# Altium footprint library SOT23-6.PcbLib: 2 footprints
Each footprint in its own frame and in the unit in brackets; x right, y up, seen from the top. Pads: shape width x height; smd on the part's side, far side on the other; paste and mask are expansions set on the pad; w line width, h text height; cw(c..) or ccw(c..) is an arc to the next point about the centre after c.
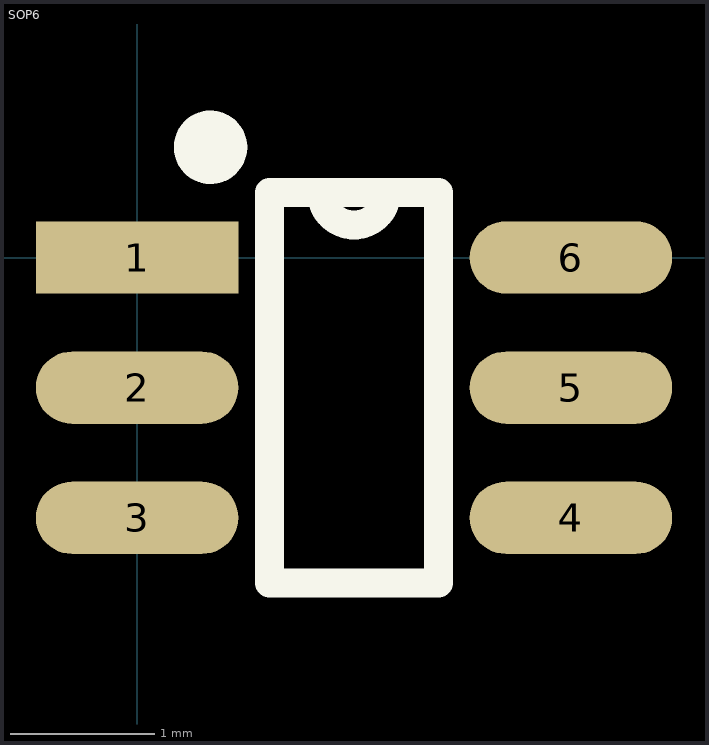
[diagram p0: the footprints below, top view; thin cyan lines are the x and y axes]

## PCBComponent_1 [mm]

## SOP6 [mm]
pads (6):
  rect 1.4x0.5 smd: 1(0,0)
  oval 1.4x0.5 smd: 2(0,-0.9) 3(0,-1.8) 4(3,-1.8) 5(3,-0.9) 6(3,0)
Top Overlay:
  circle w0.254: c0.508,0.762 r0.127
  lines w0.2: 0.915,-2.25 2.085,-2.25 2.085,0.45 1.275,0.45 ccw(c1.5,0.45) 1.725,0.45 0.915,0.45 0.915,-2.25